# Altium schematic symbol library LM393_D_8.SchLib: 2 symbols
Pins are listed as number, name and electrical type; pins without a type are passive.

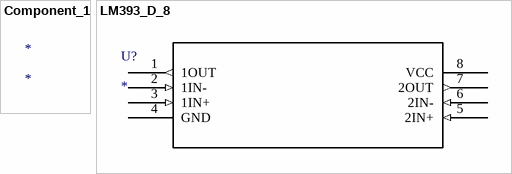
[diagram p0: symbols Component_1 to LM393_D_8]

## Component_1
designator *

## LM393_D_8
designator U?
Imported; Manufacturer: Texas Instruments; GENERIC_PART_NUMBER: LM393; Manufacturer_Part_Number: lm393_d_8; INDUSTRY_STD_PKG_TYPE: SOIC; FAMILY_NAME: COMPARATOR; PIN_COUNT: 8; PACKAGE_DESIGNATOR: D; Datasheet URL: http://www.ti.com/lit/gpn/LM393; Vendor: Texas Instruments; RefDes: RefDes; Type: DEV; Value: Value
footprint D8
pins: 1 1OUT (out), 2 1IN- (in), 3 1IN+ (in), 4 GND (power), 5 2IN+ (in), 6 2IN- (in), 7 2OUT (out), 8 VCC (power)